# Altium footprint library PowerTransducer.PcbLib: 37 footprints (part 2 of 3)
Each footprint in its own frame and in the unit in brackets; x right, y up, seen from the top. Pads: shape width x height; smd on the part's side, far side on the other; paste and mask are expansions set on the pad; w line width, h text height; cw(c..) or ccw(c..) is an arc to the next point about the centre after c.
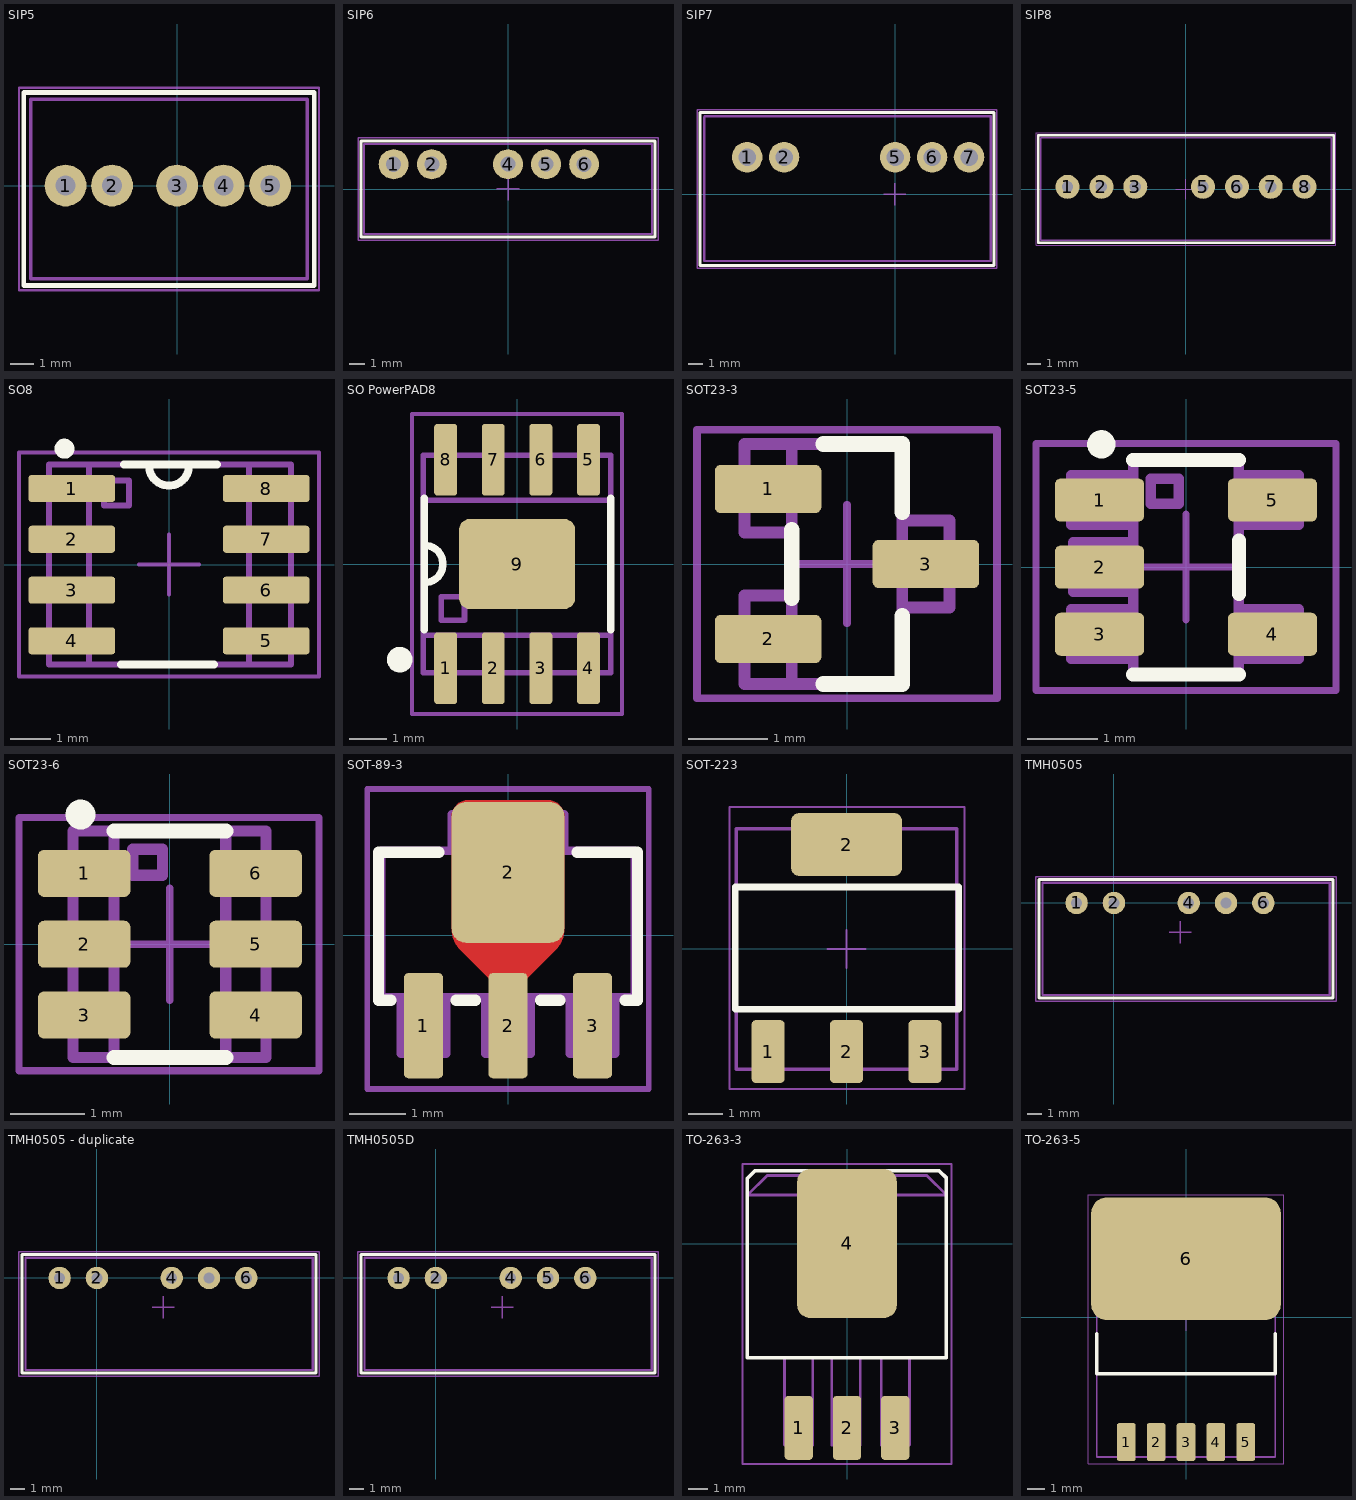
[diagram p1: the footprints below, top view; thin cyan lines are the x and y axes]

## SIP5 [mm]
height 1.12
pads (5):
  round 1.8 hole 0.85: 1(-4.8,0) 2(-2.8,0) 3(0,0) 4(2,0) 5(4,0)
Top Overlay:
  lines w0.2: -6.6,-4.3 5.9,-4.3 5.9,4 -6.6,4 -6.6,-4.3
Mechanical 9:
  text ".Designator" at -4.8,6.2 h3
Mechanical 10:
  text ".Comment" at -3.3,4.5 h2
Mechanical 11:
  lines w0.15: -6.3,-4 -6.3,3.7 5.6,3.7 5.6,-4 -6.3,-4
Mechanical 15:
  lines w0.1: -0.77,0 0.73,0 ; -0.02,-0.75 -0.02,0.75 ; -6.8,-4.5 6.1,-4.5 6.1,4.2 -6.8,4.2 -6.8,-4.5
3D body: height 0, standoff -4, extent 3.75,-0.125 4.25,0.125
3D body: height 0, standoff -4, extent 1.75,-0.125 2.25,0.125
3D body: height 0, standoff -4, extent -0.25,-0.125 0.25,0.125
3D body: height 0, standoff -4, extent -3.05,-0.125 -2.55,0.125
3D body: height 0, standoff -4, extent -5.05,-0.125 -4.55,0.125
3D body: height 11, standoff 0, extent -6.3,-4 5.6,3.675

## SIP6 [mm]
height 1.12
pads (5):
  round 2 hole 1: 1(-7.64,1.65) 2(-5.1,1.65) 4(-0.02,1.65) 5(2.52,1.65) 6(5.06,1.65)
Top Overlay:
  lines w0.2: -9.82,-3.2 9.78,-3.2 9.78,3.2 -9.82,3.2 -9.82,-3.2
Mechanical 9:
  text ".Designator" at -5.7,4.5 h3
Mechanical 10:
  text ".Comment" at -2.5,-5.1 h2
Mechanical 11:
  lines w0.15: -9.62,-3 -9.62,3 9.58,3 9.58,-3 -9.62,-3
Mechanical 15:
  lines w0.1: -0.77,0 0.73,0 ; -0.02,-0.75 -0.02,0.75 ; -10.02,-3.4 9.98,-3.4 9.98,3.4 -10.02,3.4 -10.02,-3.4
3D body "User Library-SIP-5(7)_A6.step": height 10.71, standoff -1.7, extent -9.67,-3.07 9.63,3.02

## SIP7 [mm]
height 1.12
pads (5):
  round 2.1 hole 1.2: 1(-10.16,2.54) 2(-7.62,2.54) 5(0,2.54) 6(2.54,2.54) 7(5.08,2.54)
Top Overlay:
  lines w0.2: -13.4,-4.9 6.8,-4.9 6.8,5.6 -13.4,5.6 -13.4,-4.9
Mechanical 9:
  text ".Designator" at -5,7.9 h3
Mechanical 10:
  text ".Comment" at -3.5,6.2 h2
Mechanical 11:
  lines w0.15: -13.1,-4.6 -13.1,5.3 ; -13.075,-4.6 6.575,-4.6 6.575,5.35 -13.075,5.35
Mechanical 15:
  lines w0.1: -0.77,0 0.73,0 ; -0.02,-0.75 -0.02,0.75 ; -13.6,-5.1 7,-5.1 7,5.8 -13.6,5.8 -13.6,-5.1
3D body "User Library-SIP7.STEP": height 13.2, standoff -3.55, extent -13.075,-4.6 6.575,5.35

## SIP8 [mm]
height 1.12
pads (7):
  round 1.8 hole 0.85: 1(-8.885,0.163) 2(-6.345,0.163) 3(-3.805,0.163) 5(1.275,0.163) 6(3.815,0.163) 7(6.355,0.163) 8(8.895,0.163)
Top Overlay:
  lines w0.2: -11.075,-4.037 -11.075,4.038 11.075,4.038 11.075,-4.037 -11.075,-4.037
Mechanical 13:
  lines w0.1: -10.875,-3.837 10.875,-3.837 10.875,3.837 -10.875,3.837 -10.875,-3.837
Mechanical 15:
  lines w0.05: -0.75,0 0.75,0 ; 0,-0.75 0,0.75 ; -11.25,-4.212 -11.25,4.213 11.25,4.213 11.25,-4.212 -11.25,-4.212
3D body: height 11, standoff 0, extent -10.875,-3.837 10.875,3.837

## SO8 [mm]
height 1.75
pads (8):
  rrect25% 2.17x0.68 smd: 1(-2.43,1.905) 2(-2.43,0.635) 3(-2.43,-0.635) 4(-2.43,-1.905) 5(2.43,-1.905) 6(2.43,-0.635) 7(2.43,0.635) 8(2.43,1.905)
Top Overlay:
  circle w0.25: c-2.615,2.9 r0.125
  lines w0.2: -1.2,-2.5 1.125,-2.5 ; -1.125,2.5 1.2,2.5 ; -0.5,2.475 ccw(c0,2.475) 0.5,2.475
Mechanical 9:
  text ".Designator" at -4,3.25 h3.5
Mechanical 10:
  text ".Comment" at -2.75,-4 h2
Mechanical 11:
  lines w0.15: -2,-2.5 -2,2.5 ; 2,-2.5 2,2.5 ; -3,-2.5 3.05,-2.5 3.05,2.5 -3,2.5 -3,-2.5 ; -1.625,1.475 -1.625,2.1 -1,2.1 -1,1.475 -1.625,1.475
Mechanical 15:
  lines w0.1: -0.75,0 0.75,0 ; 0,-0.75 0,0.75 ; -3.75,-2.8 -3.75,2.8 3.75,2.8 3.75,-2.8 -3.75,-2.8
3D body "SOIC-8.STEP": height 1.7, standoff 0, extent -3,-2.54 3,2.54

## SO PowerPAD8 [mm]
pads (9):
  rrect25% 0.61x1.91 smd: 1(-1.905,-2.78) 2(-0.635,-2.78) 3(0.635,-2.78) 4(1.905,-2.78) 5(1.905,2.78) 6(0.635,2.78) 7(-0.635,2.78) 8(-1.905,2.78)
  rrect25% 3.1x2.41 smd: 9(0,0)
Top Overlay:
  circle w0.254: c-3.127,-2.55 r0.215
  lines w0.2: -2.475,-1.75 -2.475,1.75 ; -2.475,-0.5 ccw(c-2.475,0) -2.475,0.5 ; 2.5,-1.75 2.5,1.75
  lines w0.254: -3.025,-2.55 cw(c-3.152,-2.55) -3.025,-2.54
Mechanical 9:
  text ".Designator" at -4.6,4.825 h3.5
Mechanical 10:
  text ".Comment" at -2.8,-5.45 h2
Mechanical 11:
  lines w0.15: -2.5,-1.9 2.5,-1.9 ; -2.5,1.7 2.5,1.7 ; -2.5,-2.9 -2.5,2.9 2.5,2.9 2.5,-2.9 -2.5,-2.9 ; -2.025,-1.5 -2.025,-0.875 -1.4,-0.875 -1.4,-1.5 -2.025,-1.5
Mechanical 15:
  lines w0.1: -0.75,0 0.75,0 ; 0,-0.75 0,0.75 ; -2.8,-4 -2.8,4 2.8,4 2.8,-4 -2.8,-4
3D body "CircuitWorks-SO-8.step": height 1.45, standoff 0, extent -2.451,-2.925 2.451,2.853

## SOT23-3 [mm]
height 1.12
pads (3):
  rrect25% 1.35x0.61 smd: 1(-1,0.95) 2(-1,-0.95) 3(1,0)
Top Overlay:
  lines w0.2: -0.7,-0.43 -0.7,0.43 ; -0.3,-1.52 0.7,-1.52 0.7,-0.66 ; -0.3,1.52 0.7,1.52 0.7,0.66
Mechanical 9:
  text ".Designator" at -4.25,2.75 h3.5
Mechanical 10:
  text ".Comment" at -3,-3.5 h2
Mechanical 11:
  lines w0.15: -0.7,-1.52 -0.7,1.52 ; -0.7,-0.4 -1.3,-0.4 -1.3,-1.52 0.7,-1.52 0.7,1.52 -1.3,1.52 -1.3,0.4 -0.7,0.4 ; 0.7,-0.55 1.3,-0.55 1.3,0.55 0.7,0.55
Mechanical 15:
  lines w0.1: -0.75,0 0.75,0 ; 0,-0.75 0,0.75 ; -1.9,-1.7 1.9,-1.7 1.9,1.7 -1.9,1.7 -1.9,-1.7
3D body "SOT-23-3.STEP": height 1.1, standoff 0, extent -1.15,-1.5 1.15,1.5

## SOT23-5 [mm]
height 1.12
pads (5):
  rrect25% 1.26x0.61 smd: 1(-1.225,0.95) 2(-1.225,0) 3(-1.225,-0.95) 4(1.225,-0.95) 5(1.225,0.95)
Top Overlay:
  circle w0.2: c-1.2,1.74 r0.1
  lines w0.2: -0.75,-1.52 0.75,-1.52 ; -0.75,1.52 0.75,1.52 ; 0.75,-0.38 0.75,0.38
Mechanical 9:
  text ".Designator" at -4.575,2.7 h3.5
Mechanical 10:
  text ".Comment" at -3.325,-3.55 h2
Mechanical 11:
  lines w0.15: -0.75,-1.3 -1.625,-1.3 -1.625,-0.6 -0.75,-0.6 ; -0.75,-0.35 -1.6,-0.35 -1.6,0.35 -0.75,0.35 ; -0.75,0.6 -1.625,0.6 -1.625,1.3 -0.75,1.3 ; 0.75,-1.3 1.6,-1.3 1.6,-0.6 0.75,-0.6 ; 0.75,0.6 1.6,0.6 1.6,1.3 0.75,1.3 ; -0.75,-1.52 0.75,-1.52 0.75,1.52 -0.75,1.52 -0.75,-1.52 ; -0.5,0.9 -0.1,0.9 -0.1,1.25 -0.5,1.25 -0.5,0.9
Mechanical 15:
  lines w0.1: -0.75,0 0.75,0 ; 0,-0.75 0,0.75 ; -2.125,-1.75 -2.125,1.75 -2,1.75 2.125,1.75 2.125,-1.75 -2.125,-1.75
3D body "User Library-SOT23-5-3.STEP": height 1.45, standoff 0.01, extent -1.6,-1.555 1.6,1.545

## SOT23-6 [mm]
height 1.12
pads (6):
  rrect25% 1.24x0.63 smd: 1(-1.15,0.95) 2(-1.15,0) 3(-1.15,-0.95) 4(1.15,-0.95) 5(1.15,0) 6(1.15,0.95)
Top Overlay:
  circle w0.2: c-1.2,1.74 r0.1
  lines w0.2: -0.75,-1.52 0.75,-1.52 ; -0.75,1.52 0.75,1.52
Mechanical 9:
  text ".Designator" at -4.275,2.525 h3.5
Mechanical 10:
  text ".Comment" at -3.025,-3.025 h2
Mechanical 11:
  lines w0.15: -0.75,-1.52 -0.75,1.52 ; 0.75,-1.52 0.75,1.52 ; -1.3,-1.52 -1.3,1.52 1.29,1.52 1.29,-1.52 -1.3,-1.52 ; -0.5,0.925 -0.1,0.925 -0.1,1.275 -0.5,1.275 -0.5,0.925
Mechanical 15:
  lines w0.1: -0.75,0 0.75,0 ; 0,-0.75 0,0.75 ; -2.025,-1.7 -2.025,1.7 2,1.7 2,-1.7 -2.025,-1.7
3D body "SW3dPS-SOT-23-6.STEP": height 1.09, standoff 0, extent -1.201,-1.397 1.225,1.397

## SOT-89-3 [mm]
pads (4):
  rrect25% 0.7x1.87 smd: 1(-1.5,-1.6) 2(0,-1.6) 3(1.5,-1.6)
  rrect25% 2x2.5 smd: 2(0,1.121)
Top Layer:
  region: -0.3,-0.8 -0.829,-0.271 -0.87,-0.23 -0.934,-0.135 -0.978,-0.029 -1,0.084 -1,0.141 -1,2.1 -1,2.16 -0.954,2.27 -0.87,2.354 -0.76,2.4 -0.7,2.4 0.7,2.4 0.76,2.4 0.87,2.354 0.954,2.27 1,2.16 1,2.1 1,0.141 1,0.084 0.978,-0.029 0.934,-0.135 0.87,-0.23 0.829,-0.271 0.3,-0.8
Top Overlay:
  lines w0.2: -2.075,-1.15 -2.3,-1.15 -2.3,1.475 -1.225,1.475 ; -0.925,-1.15 -0.575,-1.15 ; 0.575,-1.15 0.925,-1.15 ; 1.225,1.475 2.3,1.475 2.3,-1.15 2.075,-1.15
Mechanical 9:
  text ".Designator" at -5.1,3.6 h3.5
Mechanical 10:
  text ".Comment" at -2.9,-4.5 h2
Mechanical 11:
  lines w0.15: -1.9,-1.1 -1.9,-2.1 -1.1,-2.1 -1.1,-1.1 ; -1,1.5 -1,2.15 1,2.15 1,1.5 ; -0.4,-1.1 -0.4,-2.1 0.4,-2.1 0.4,-1.1 ; 1.1,-1.1 1.1,-2.1 1.9,-2.1 1.9,-1.1 ; -2.25,-1.1 -2.25,1.5 2.25,1.5 2.25,-1.1 -2.25,-1.1
Mechanical 15:
  lines w0.1: -2.5,-2.725 -2.5,2.6 2.5,2.6 2.5,-2.725 -2.5,-2.725
3D body "User Library-SOT89-3.STEP": height 1.54, standoff 0, extent -2.25,-2.1 2.25,2.15

## SOT-223 [mm]
pads (4):
  rrect25% 0.97x1.85 smd: 1(-2.311,-3.024) 2(0,-3.024) 3(2.311,-3.024)
  rrect25% 3.27x1.85 smd: 2(0,3.074)
Top Overlay:
  lines w0.2: -3.277,-1.778 -3.277,1.825 3.302,1.825 3.302,-1.778 -3.277,-1.778
Mechanical 13:
  lines w0.1: -3.25,-3.543 -3.25,3.543 3.25,3.543 3.25,-3.543 -3.25,-3.543
Mechanical 15:
  lines w0.055: -0.563,0 0.563,0 ; 0,-0.563 0,0.563 ; -3.45,-4.125 -3.45,4.175 3.475,4.175 3.475,-4.125 -3.45,-4.125
3D body "User Library-SOT-223-4.STEP": height 1.65, standoff 0, extent -3.25,-3.543 3.25,3.543

## TMH0505 [mil]
height 44.09
pads (5):
  round 60 hole 30: 1(-100,0) 2(0,0) 4(200,0) 6(400,0) ""(300,0)
Top Overlay:
  lines w7.87: -200.79,-253.94 586.62,-253.94 586.62,62.99 -200.79,62.99 -200.79,-253.94
Mechanical 9:
  text ".Designator" at -23.62,118.11 h137.8
Mechanical 10:
  text ".Comment" at 59.06,-318.9 h78.74
Mechanical 11:
  lines w5.91: -190.94,-246.06 -190.94,53.94 577.75,53.94 577.75,-246.06 -190.94,-246.06
Mechanical 15:
  lines w3.94: 147.64,-78.74 206.69,-78.74 ; 177.17,-108.27 177.17,-49.21 ; -208.66,-263.78 594.49,-263.78 594.49,70.87 -208.66,70.87 -208.66,-263.78
3D body "User Library-TMH XXXXD.step": height 403.54, standoff -124.02, extent -189.96,-245.08 577.75,54.13

## TMH0505 - duplicate [mil]
height 44.09
pads (5):
  round 60 hole 30: 1(-100,0) 2(0,0) 4(200,0) 6(400,0) ""(300,0)
Top Overlay:
  lines w7.87: -200.79,-253.94 586.62,-253.94 586.62,62.99 -200.79,62.99 -200.79,-253.94
Mechanical 9:
  text ".Designator" at -23.62,118.11 h137.8
Mechanical 10:
  text ".Comment" at 59.06,-318.9 h78.74
Mechanical 11:
  lines w5.91: -190.94,-246.06 -190.94,53.94 577.75,53.94 577.75,-246.06 -190.94,-246.06
Mechanical 15:
  lines w3.94: 147.64,-78.74 206.69,-78.74 ; 177.17,-108.27 177.17,-49.21 ; -208.66,-263.78 594.49,-263.78 594.49,70.87 -208.66,70.87 -208.66,-263.78
3D body "User Library-TMH XXXXD.step": height 403.54, standoff -124.02, extent -189.96,-245.08 577.75,54.13

## TMH0505D [mil]
height 44.09
pads (5):
  round 60 hole 30: 1(-100,0) 2(0,0) 4(200,0) 5(300,0) 6(400,0)
Top Overlay:
  lines w7.87: -200.79,-253.94 -200.79,62.99 586.62,62.99 586.62,-253.94 -200.79,-253.94
Mechanical 9:
  text ".Designator" at -23.62,118.11 h137.8
Mechanical 10:
  text ".Comment" at 59.06,-318.9 h78.74
Mechanical 11:
  lines w5.91: -190.94,-246.06 577.75,-246.06 577.75,53.94 -190.94,53.94 -190.94,-246.06
Mechanical 15:
  lines w3.94: 147.64,-78.74 206.69,-78.74 ; 177.17,-108.27 177.17,-49.21 ; -208.66,-263.78 -208.66,70.87 594.49,70.87 594.49,-263.78 -208.66,-263.78
3D body "User Library-TMH XXXXD.step": height 403.54, standoff -124.02, extent -189.96,-245.08 577.75,54.13

## TO-263-3 [mm]
pads (4):
  rrect25% 1.49x3.36 smd: 1(-2.54,-9.7) 2(0,-9.7) 3(2.54,-9.7)
  rrect25% 5.25x7.84 smd: 4(0,0.015)
Top Overlay:
  lines w0.2: -5.258,-6 -5.258,3.442 -4.86,3.84 4.86,3.84 5.232,3.468 5.232,-6 -5.258,-6
Mechanical 9:
  text ".Designator" at -5.5,4.9 h3.5
Mechanical 10:
  text ".Comment" at -3.1,-13.3 h2
Mechanical 11:
  lines w0.15: -5.24,2.56 -4.2,3.6 4.202,3.6 5.232,2.57 -5.25,2.57 -5.25,-6 5.25,-6 5.25,2.57 ; -3.3,-6 -3.3,-10.6 -1.8,-10.6 -1.8,-6 ; -0.8,-6 -0.8,-10.6 0.7,-10.6 0.7,-6 ; 1.8,-6 1.8,-10.6 3.3,-10.6 3.3,-6
Mechanical 15:
  lines w0.1: -0.75,0 0.75,0 ; 0,-0.75 0,0.75 ; -5.5,-11.6 -5.5,4.2 5.5,4.2 5.5,-11.6 -5.5,-11.6
3D body "User Library-D?PAK TO-263-3.step": height 4.87, standoff 0, extent -5.07,-10.59 5.09,3.64

## TO-263-5 [mm] "10.16mm x 14.35mm"
height 4.57
pads (6):
  rrect25% 1.07x2.16 smd: 1(-3.4,-7.1) 2(-1.7,-7.1) 3(0,-7.1) 4(1.7,-7.1) 5(3.4,-7.1)
  rrect25% 10.8x6.99 smd: 6(0,3.34)
Top Overlay:
  lines w0.2: -5.09,-0.927 -5.09,-3.212 5.09,-3.212 5.09,-0.927
Mechanical 13:
  lines w0.1: -5.09,-7.944 -5.09,6.406 5.09,6.406 5.09,-7.944 -5.09,-7.944
Mechanical 15:
  lines w0.05: -0.75,0 0.75,0 ; 0,-0.75 0,0.75 ; -5.575,-8.35 5.575,-8.35 5.575,7 -5.575,7 -5.575,-8.35
3D body "TS5B.STEP": height 4.58, standoff 0, extent -5.09,-7.944 5.09,6.406